# Altium schematic symbol library CSD18504Q5A.SchLib: 1 symbol
Pins are listed as number, name and electrical type; pins without a type are passive.

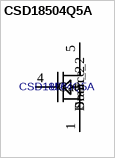
[diagram p0: symbol CSD18504Q5A]

## CSD18504Q5A
designator U?
Mfr_Name: Texas Instruments; Value: CSD18504Q5A; Copyright: Copyright (C) 2023 Ultra Librarian. All rights reserved.; Manufacturer_Part_Number: CSD18504Q5A
footprint TRANS_NEXFET_Q5A
pins: 1 Source_2, 2 Source_3, 3 Source, 4 Gate, 5 Drain_2, 6 Drain_3, 7 Drain_4, 8 Drain_5, 9 Drain